# EAGLE library part 6PIN-TH-2MM_2 (library CYCFI_Con)
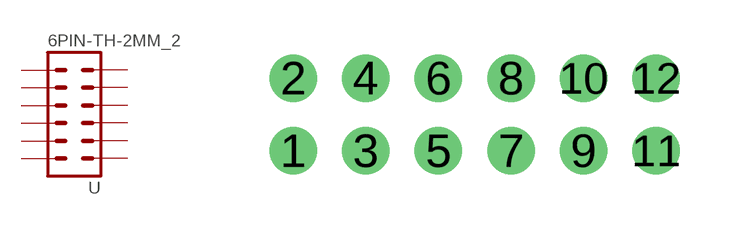
[diagram p30: symbol with the pads of 6P-TH-2MM_2; footprint 6P-TH-2MM_2]

Designator prefix -

## 6PIN-TH-2MM_2  [6P-TH-2MM_2]
1  1  pas
2  2  pas
3  3  pas
4  4  pas
5  5  pas
6  6  pas
7  7  pas
8  8  pas
9  9  pas
10  10  pas
11  11  pas
12  12  pas

## Footprint 6P-TH-2MM_2 (pad centres in mm)
drill 0.8: 1 -5,-1; 2 -5,1; 3 -3,-1; 4 -3,1; 5 -1,-1; 6 -1,1; 7 1,-1; 8 1,1; 9 3,-1; 10 3,1; 11 5,-1; 12 5,1